# Altium footprint library antenna.PcbLib: 7 footprints
Each footprint in its own frame and in the unit in brackets; x right, y up, seen from the top. Pads: shape width x height; smd on the part's side, far side on the other; paste and mask are expansions set on the pad; w line width, h text height; cw(c..) or ccw(c..) is an arc to the next point about the centre after c.
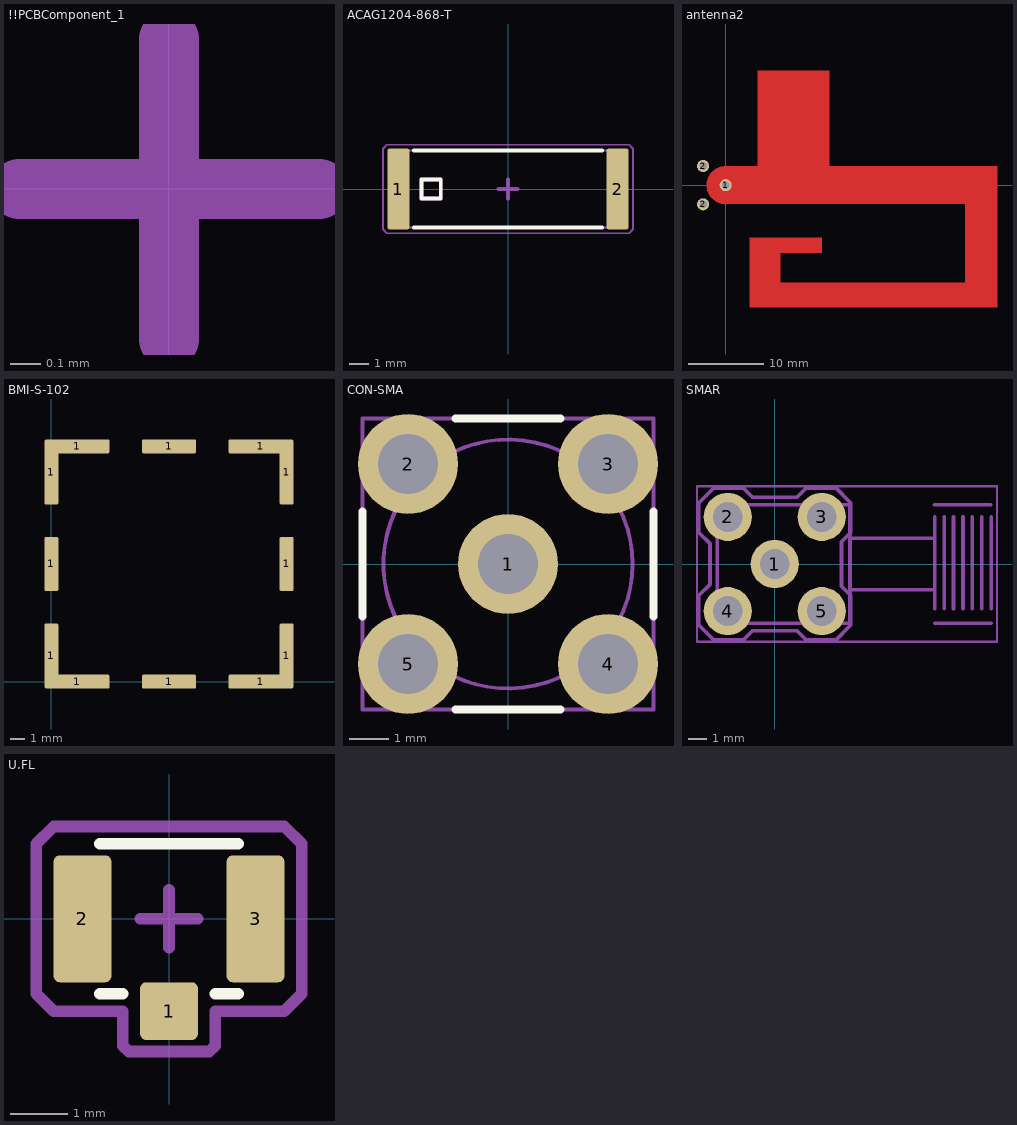
[diagram p0: the footprints below, top view; thin cyan lines are the x and y axes]

## !!PCBComponent_1 [mm]
M3_comm_top:
  text ".comment" at -0.9,-0.3 h1
M5_asm_top:
  text ".Designator" at -1,1.3 h1
M7_courtyard_top:
  lines w0.2: -0.5,0 0.5,0 ; 0,-0.5 0,0.5

## ACAG1204-868-T [mm] "ACAG1204-868-T"
height 0.025
pads (2):
  rrect20% 1.15x4.2 smd mask+0.127: 1(-5.7,0) 2(5.7,0)
Top Overlay:
  lines w0.2: -4.9,-2 4.9,-2 ; -4.9,2 4.9,2 ; -4.5,-0.5 -3.5,-0.5 -3.5,0.5 -4.5,0.5 -4.5,-0.5
M3_comm_top:
  text ".comment" at -0.9,-0.3 h1
M5_asm_top:
  lines w0.1: -5.7,-1.9 -5.7,0 -5.7,1.9 -5.6,2 5.6,2 5.7,1.9 5.7,-1.9 5.6,-2 -5.6,-2 -5.7,-1.9
  lines w0.2: -4.5,-0.5 -4.5,0.5 -3.5,0.5 -3.5,-0.5 -4.5,-0.5
  text ".Designator" at -1,1.3 h1
M7_courtyard_top:
  lines w0.1: -6.5,-2.1 -6.3,-2.3 6.3,-2.3 6.5,-2.1 6.5,2.1 6.3,2.3 -6.3,2.3 -6.5,2.1 -6.5,-2.1
  lines w0.2: -0.5,0 0.5,0 ; 0,-0.5 0,0.5
3D body: height 1.6, standoff 0.05, extent -6.7,-2 4.7,2

## antenna2 [mm]
pads (3):
  round 1.6 hole 1: 1(0,0) 2(-3,-2.54) 2(-3,2.54)
Top Layer:
  region: 13.761,2.54 35.968,2.54 35.968,-16.155 3.22,-16.155 3.22,-6.985 12.745,-6.985 12.745,-8.992 7.208,-8.992 7.208,-12.954 31.744,-12.954 31.744,-2.49 0.045,-2.515 -0.174,-2.509 -0.392,-2.483 -0.607,-2.439 -0.817,-2.377 -1.021,-2.296 -1.218,-2.198 -1.404,-2.083 -1.581,-1.952 -1.745,-1.807 -1.895,-1.648 -2.032,-1.476 -2.153,-1.293 -2.257,-1.1 -2.344,-0.898 -2.414,-0.69 -2.465,-0.477 -2.497,-0.26 -2.51,-0.041 -2.504,0.178 -2.479,0.396 -2.435,0.611 -2.372,0.821 -2.291,1.025 -2.193,1.221 -2.078,1.408 -1.948,1.585 -1.802,1.749 -1.643,1.899 -1.471,2.036 -1.288,2.157 -1.095,2.261 -0.894,2.348 -0.686,2.418 -0.472,2.469 -0.255,2.501 -0.036,2.514 0.045,2.514 4.236,2.514 4.236,15.138 13.761,15.138
Mechanical 15:
  lines w0.1: -0.5,0 0.5,0 ; 0,-0.5 0,0.5

## BMI-S-102 [mm] "BOARD SHIELD .65X.65\" 1PIECE"
height 3.6
pads (12):
  rrect25% 1x4.55 smd: 1(0,1.8) 1(0,14.7) 1(16.5,1.8) 1(16.5,14.7)
  rrect25% 1x3.8 smd: 1(0,8.25) 1(16.5,8.25)
  rrect25% 4.55x1 smd: 1(1.8,0) 1(1.8,16.5) 1(14.7,0) 1(14.7,16.5)
  rrect25% 3.8x1 smd: 1(8.25,0) 1(8.25,16.5)
3D body "Laird-BMI-S-102.STEP": height 3.65, standoff 0.05, extent 0,0 16.5,16.5

## CON-SMA [mil] "Connector, SMA Female, 5-Lead, Thru-Hole, Straight, Body 7x7mm"
height 401.57
pads (5):
  round 100 hole 60: 1(0,0) 2(-100,100) 3(100,100) 4(100,-100) 5(-100,-100)
Top Overlay:
  lines w7.87: -145.67,-52.68 -145.67,52.68 ; -52.68,-145.67 52.68,-145.67 ; -52.68,145.67 52.68,145.67 ; 145.67,-52.68 145.67,52.68
Mechanical 13:
  circle w3.94: c-0.01,-0.01 r124.55
  lines w3.94: -145.67,-145.67 -145.67,145.67 145.67,145.67 145.67,-145.67 -145.67,-145.67
Mechanical 15:
  lines w3.94: -19.69,0 19.68,0 ; 0,-19.68 0,19.69
3D body "SMA_Stehend_Amp 132134RP-1.STEP": height 379.13, standoff -151.06, extent -137.79,-137.79 137.8,137.8

## SMAR [mm] "TE_221790-1, L-KLS1-SMA002"
pads (5):
  round 2.6 hole 1.6: 1(0,0) 2(-2.54,2.54) 3(2.54,2.54) 4(-2.54,-2.54) 5(2.54,-2.54)
M3_comm_top:
  text ".comment" at -0.9,-0.3 h1
M5_asm_top:
  lines w0.2: 4.091,1.397 8.636,1.397 ; 8.622,3.2 9.13,3.2 9.638,3.2 10.146,3.2 10.654,3.2 11.162,3.2 11.67,3.2 ; 8.636,-3.2 9.144,-3.2 9.652,-3.2 10.16,-3.2 10.668,-3.2 11.176,-3.2 11.684,-3.2 ; 8.636,-2.413 8.636,-1.397 ; 8.636,2.54 8.636,1.397 ; 9.144,-2.413 9.144,2.54 ; 9.652,-2.413 9.652,2.54 ; 10.16,-2.413 10.16,2.54 ; 10.668,-2.413 10.668,2.54 ; 11.176,-2.413 11.176,2.54 ; 11.684,-2.413 11.684,2.54 ; 4.064,-1.397 8.636,-1.397 ; 4.064,-1.397 4.064,-3.2 -3.1,-3.2 -3.1,3.2 4.064,3.2 4.064,-1.397 ; 8.636,-1.397 8.636,1.397
  text ".Designator" at -1,1.3 h1
M7_courtyard_top:
  lines w0.2: -0.5,0 0.5,0 ; 0,-0.5 0,0.5 ; -4.1,-3.3 -4.1,-2.5 -4.1,-1.7 -3.5,-1.1 -3.5,1.1 -4.1,1.7 -4.1,2.6 -4.1,3.3 -3.3,4.1 -1.7,4.1 -1.2,3.6 1.2,3.6 1.7,4.1 3.3,4.1 4.1,3.3 4.1,1.7 3.6,1.2 3.6,-1.2 4.1,-1.7 4.1,-3.3 3.3,-4.1 1.7,-4.1 1.2,-3.6 -1.2,-3.6 -1.7,-4.1 -3.3,-4.1 -4.1,-3.3
Mechanical 16:
  lines w0.127: -4.2,-4.2 12,-4.2 12,4.2 -4.2,4.2 -4.2,-4.2
3D body "c-221790-1-m-3d.stp": height 9.53, standoff -3.94, extent -3.175,-3.175 11.684,3.175

## U.FL [mm]
height 0.025
pads (3):
  rrect20% 1x1 smd mask+0.127: 1(0,-1.6)
  rrect20% 1x2.2 smd mask+0.127: 2(-1.5,0) 3(1.5,0)
Top Overlay:
  lines w0.2: -1.2,-1.3 -0.8,-1.3 ; -1.2,1.3 1.2,1.3 ; 0.8,-1.3 1.2,-1.3
M3_comm_top:
  text ".comment" at -0.9,-0.3 h1
M5_asm_top:
  text ".Designator" at -1,1.3 h1
M7_courtyard_top:
  lines w0.2: -0.5,0 0.5,0 ; 0,-0.5 0,0.5 ; -2.3,-1.3 -2.3,1.3 -2,1.6 2,1.6 2.3,1.3 2.3,-1.3 2,-1.6 0.8,-1.6 0.8,-2.2 0.7,-2.3 -0.7,-2.3 -0.8,-2.2 -0.8,-1.6 -2,-1.6 -2.3,-1.3
3D body "User Library-U_FL-R-SMT-1.step": height 1.25, standoff -0.01, extent -1.5,-1.55 1.5,1.55